# EAGLE library part MICRO_MATE-N-LOK_6_2_ROW_VERTICAL_THROUGH (library con-tyco-micro-mate-n-lok-old)
794630-6
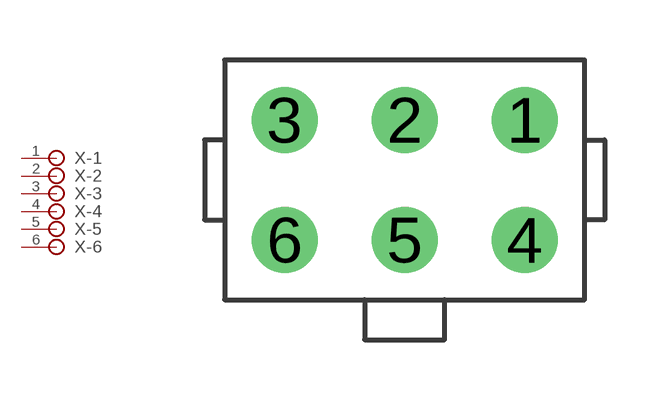
[diagram p12: symbol with the pads of MICRO_MATE-N-LOK_6_2_ROW_VERTICAL_THROUGH; footprint MICRO_MATE-N-LOK_6_2_ROW_VERTICAL_THROUGH]

Designator prefix X; gates -6=PIN -5=PIN -4=PIN -3=PIN -2=PIN -1=PIN

## MICRO_MATE-N-LOK_6_2_ROW_VERTICAL_THROUGH  [MICRO_MATE-N-LOK_6_2_ROW_VERTICAL_THROUGH]
1  -1:P$1
2  -2:P$1
3  -3:P$1
4  -4:P$1
5  -5:P$1
6  -6:P$1

## Footprint MICRO_MATE-N-LOK_6_2_ROW_VERTICAL_THROUGH (pad centres in mm)
drill 1.1: 1 3,1.5; 2 0,1.5; 3 -3,1.5; 4 3,-1.5; 5 0,-1.5; 6 -3,-1.5